# Altium schematic symbol library Brushed DC.SchLib: 3 symbols
Pins are listed as number, name and electrical type; pins without a type are passive.

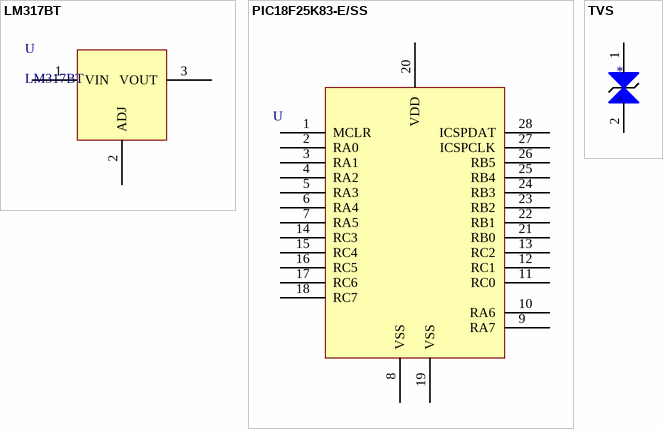
[diagram p0: symbols LM317BT to TVS]

## LM317BT
designator U
Linear Voltage Regulator IC 1 Output 1.5A TO-220
pins: 1 VIN (power), 2 ADJ, 3 VOUT (power)

## PIC18F25K83-E/SS
designator U  (value not drawn)
PIC PIC® XLP™ 18K, Functional Safety (FuSa) Microcontroller IC 8-Bit 64MHz 32KB (16K x 16) FLASH 28-SSOP /
pins: 1 MCLR, 2 RA0, 3 RA1, 4 RA2, 5 RA3, 6 RA4, 7 RA5, 8 VSS (power), 9 RA7, 10 RA6, 11 RC0, 12 RC1, 13 RC2, 14 RC3, 15 RC4, 16 RC5, 17 RC6, 18 RC7, 19 VSS (power), 20 VDD (power), 21 RB0, 22 RB1, 23 RB2, 24 RB3, 25 RB4, 26 RB5, 27 ICSPCLK, 28 ICSPDAT

## TVS
designator *
pins: 1, 2